# EAGLE library part 36-3_EC (library 36-3-EC)
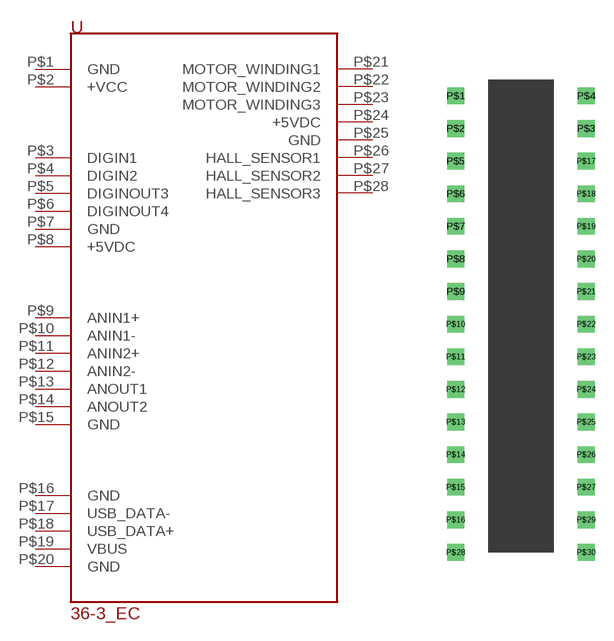
[diagram p0: symbol with the pads of 36-3_EC; footprint 36-3_EC]

Designator prefix -

## 36-3_EC  [36-3_EC]
P$1  GND
P$2  +VCC
P$3  DIGIN1
P$4  DIGIN2
P$5  DIGINOUT3
P$6  DIGINOUT4
P$7  GND
P$8  +5VDC
P$9  ANIN1+
P$10  ANIN1-
P$11  ANIN2+
P$12  ANIN2-
P$13  ANOUT1
P$14  ANOUT2
P$15  GND
P$16  GND
P$17  USB_DATA-
P$18  USB_DATA+
P$19  VBUS
P$20  GND
P$21  MOTOR_WINDING1
P$22  MOTOR_WINDING2
P$23  MOTOR_WINDING3
P$24  +5VDC
P$25  GND
P$26  HALL_SENSOR1
P$27  HALL_SENSOR2
P$28  HALL_SENSOR3

## Footprint 36-3_EC (pad centres in mm)
drill 0.8 square: P$1 -8.89,2.54; P$2 -8.89,0; P$3 1.27,0; P$4 1.27,2.54; P$5 -8.89,-2.54; P$6 -8.89,-5.08; P$7 -8.89,-7.62; P$8 -8.89,-10.16; P$9 -8.89,-12.7; P$10 -8.89,-15.24; P$11 -8.89,-17.78; P$12 -8.89,-20.32; P$13 -8.89,-22.86; P$14 -8.89,-25.4; P$15 -8.89,-27.94; P$16 -8.89,-30.48; P$17 1.27,-2.54; P$18 1.27,-5.08; P$19 1.27,-7.62; P$20 1.27,-10.16; P$21 1.27,-12.7; P$22 1.27,-15.24; P$23 1.27,-17.78; P$24 1.27,-20.32; P$25 1.27,-22.86; P$26 1.27,-25.4; P$27 1.27,-27.94; P$28 -8.89,-33.02; P$29 1.27,-30.48; P$30 1.27,-33.02